# EAGLE library part PINHEAD_F_32-1-W (library isysbus_mechanical)
PIN HEADER
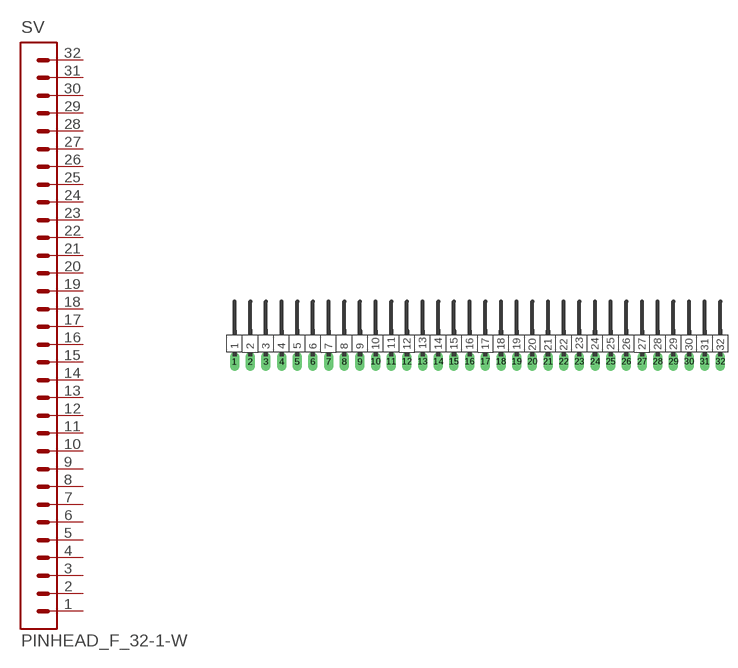
[diagram p6: symbol with the pads of PINHEAD_F_32-1-W; footprint PINHEAD_F_32-1-W]

Designator prefix SV

## PINHEAD_F_32-1-W  [PINHEAD_F_32-1-W]
1  1
2  2
3  3
4  4
5  5
6  6
7  7
8  8
9  9
10  10
11  11
12  12
13  13
14  14
15  15
16  16
17  17
18  18
19  19
20  20
21  21
22  22
23  23
24  24
25  25
26  26
27  27
28  28
29  29
30  30
31  31
32  32

## Footprint PINHEAD_F_32-1-W (pad centres in mm)
PIN HEADER
drill 1.016 long: 1 -24.13,0; 2 -21.59,0; 3 -19.05,0; 4 -16.51,0; 5 -13.97,0; 6 -11.43,0; 7 -8.89,0; 8 -6.35,0; 9 -3.81,0; 10 -1.27,0; 11 1.27,0; 12 3.81,0; 13 6.35,0; 14 8.89,0; 15 11.43,0; 16 13.97,0; 17 16.51,0; 18 19.05,0; 19 21.59,0; 20 24.13,0; 21 26.67,0; 22 29.21,0; 23 31.75,0; 24 34.29,0; 25 36.83,0; 26 39.37,0; 27 41.91,0; 28 44.45,0; 29 46.99,0; 30 49.53,0; 31 52.07,0; 32 54.61,0